# Altium footprint library Neural_Interface.PcbLib: 79 footprints (part 5 of 5)
Each footprint in its own frame and in the unit in brackets; x right, y up, seen from the top. Pads: shape width x height; smd on the part's side, far side on the other; paste and mask are expansions set on the pad; w line width, h text height; cw(c..) or ccw(c..) is an arc to the next point about the centre after c.
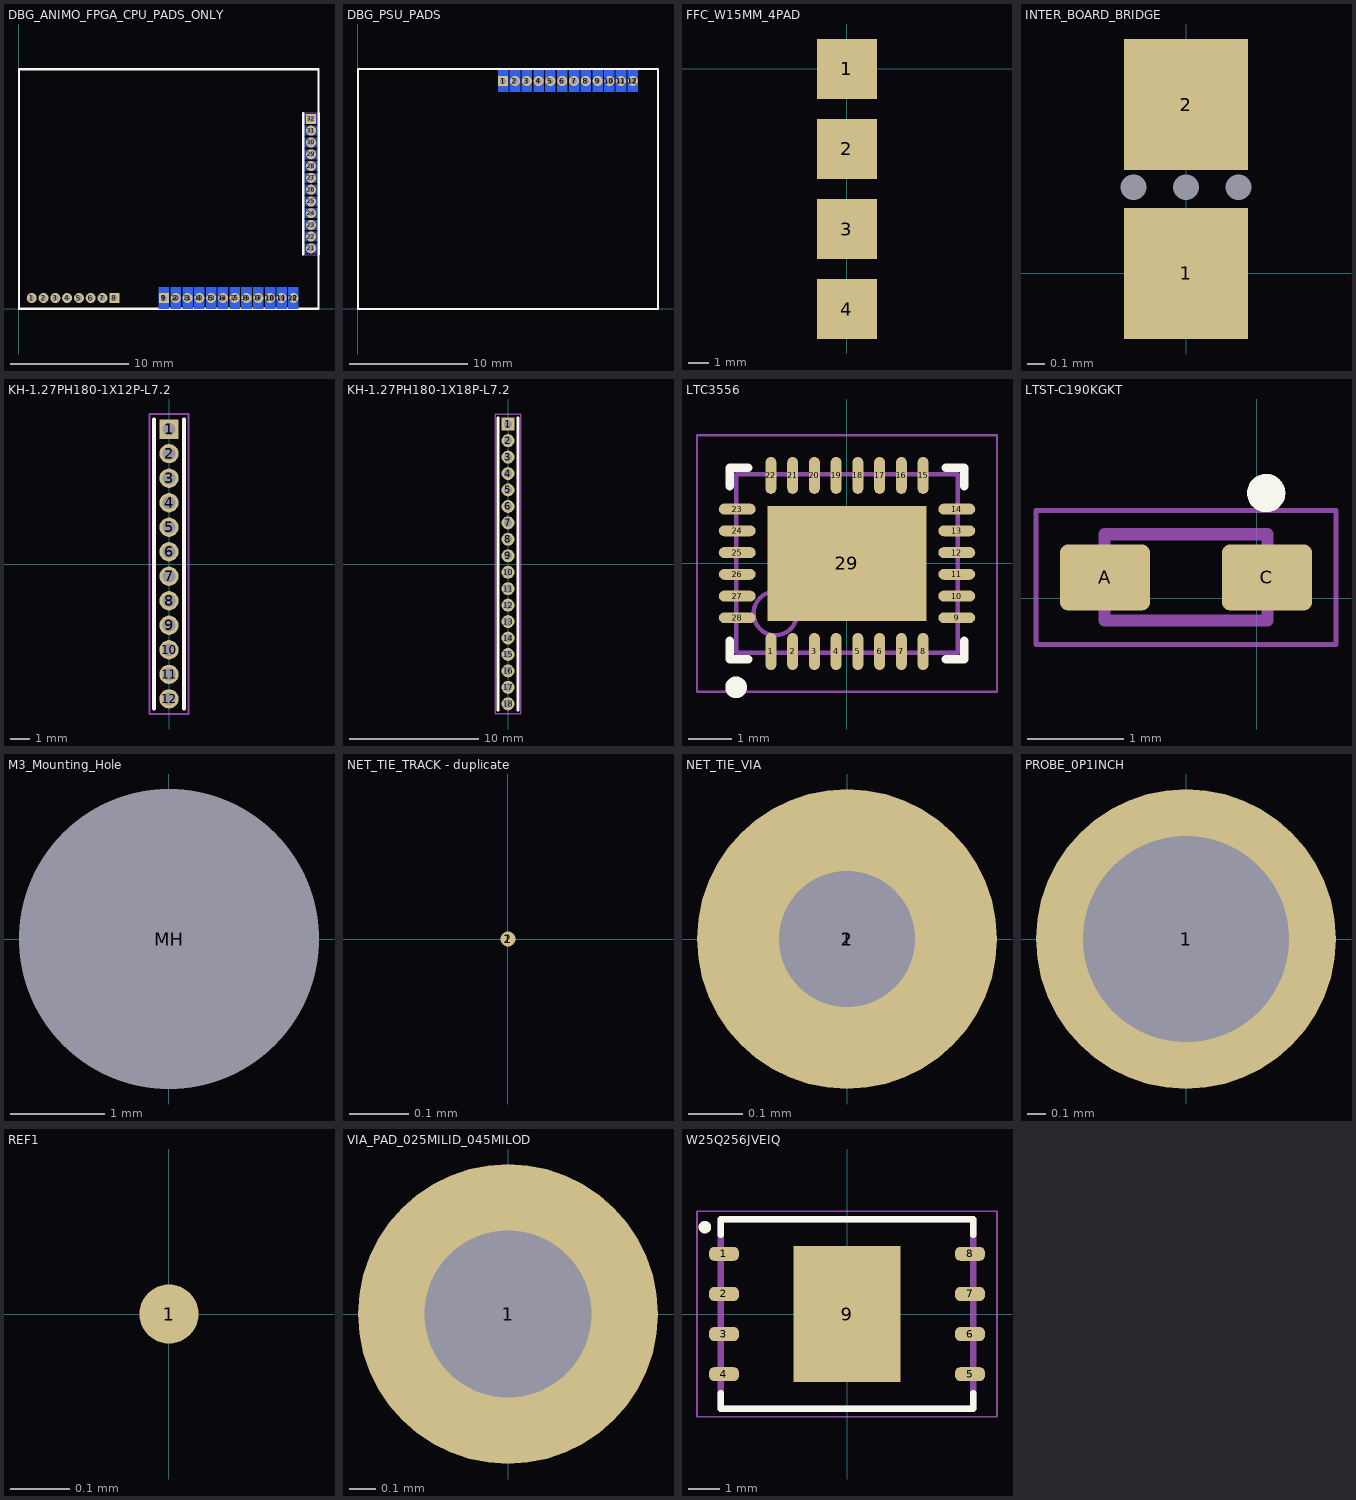
[diagram p4: the footprints below, top view; thin cyan lines are the x and y axes]

## DBG_ANIMO_FPGA_CPU_PADS_ONLY [mm]
pads (44):
  round 0.85 hole 0.5: 1(1.089,0.9) 2(2.089,0.9) 3(3.089,0.9) 4(4.089,0.9) 5(5.089,0.9) 6(6.089,0.9) 7(7.089,0.9) 10(13.3,0.9) 11(14.3,0.9) 12(15.3,0.9) 13(16.3,0.9) 14(17.3,0.9) 15(18.3,0.9) 16(19.3,0.9) 17(20.3,0.9) 18(21.3,0.9) 19(22.277,0.9) 20(23.277,0.9) 21(24.774,5.118) 22(24.774,6.118) 23(24.774,7.095) 24(24.774,8.095) 25(24.774,9.095) 26(24.774,10.095) 27(24.774,11.095) 28(24.774,12.095) 29(24.774,13.095) 30(24.774,14.095) 31(24.774,15.095)
  rect 0.85x1.8 smd far side: 1(12.3,0.9) 2(13.3,0.9) 3(14.3,0.9) 4(15.3,0.9) 5(16.3,0.9) 6(17.3,0.9) 7(18.3,0.9) 8(19.3,0.9) 9(20.3,0.9) 10(21.3,0.9) 11(22.277,0.9) 12(23.277,0.9)
  rect 0.85x0.85 hole 0.5: 8(8.089,0.9) 9(12.3,0.9) 32(24.774,16.095)
Bottom Layer:
  rectangle: 24.18,12.67 25.409,13.52
  rectangle: 24.18,5.693 25.409,6.543
  rectangle: 24.18,6.67 25.409,7.52
  rectangle: 24.18,7.67 25.409,8.52
  rectangle: 24.18,8.67 25.409,9.52
  rectangle: 24.18,9.67 25.409,10.52
  rectangle: 24.18,10.67 25.409,11.52
  rectangle: 24.18,11.67 25.409,12.52
  rectangle: 24.139,13.67 25.409,14.52
  rectangle: 24.139,14.67 25.409,15.52
  rectangle: 24.139,15.67 25.409,16.52
  rectangle: 24.139,4.693 25.409,5.543
Top Overlay:
  lines w0.198: 0.009,-0.01 25.409,-0.01 25.409,20.31 0.009,20.31 0.009,-0.01
  lines w0.2: 24.099,4.595 24.099,16.595 ; 25.449,4.595 25.449,16.595
Bottom Solder:
  lines w0.198: 0.009,-0.01 25.409,-0.01
Top 3D Body:
  lines w0.1: 24.139,4.595 24.139,16.595 25.409,16.595 25.409,4.595 24.139,4.595
3D body "ANIMO_Mainboard_Nordic_FPGA_V001.step": height 2.8, standoff -9.53, extent 0.009,-0.01 25.409,20.31

## DBG_PSU_PADS [mm]
pads (24):
  rect 0.85x0.85 hole 0.5: 1(12.291,19.304)
  rect 0.85x1.8 smd far side: 1(12.291,19.304) 2(13.291,19.304) 3(14.291,19.304) 4(15.291,19.304) 5(16.291,19.304) 6(17.291,19.304) 7(18.291,19.304) 8(19.291,19.304) 9(20.291,19.304) 10(21.291,19.304) 11(22.268,19.304) 12(23.268,19.304)
  round 0.85 hole 0.5: 2(13.291,19.304) 3(14.291,19.304) 4(15.291,19.304) 5(16.291,19.304) 6(17.291,19.304) 7(18.291,19.304) 8(19.291,19.304) 9(20.291,19.304) 10(21.291,19.304) 11(22.268,19.304) 12(23.268,19.304)
Top Overlay:
  lines w0.198: 0,0 0,20.32 25.4,20.32 25.4,0 0,0
3D body "Module_Power_V002.step": height 1.95, standoff 0.13, extent 0,0 25.4,20.32

## FFC_W15MM_4PAD [mm]
pads (4):
  rect 3x3 smd mask+0: 1(0,0) 2(0,-4) 3(0,-8) 4(0,-12)

## INTER_BOARD_BRIDGE [mm]
pads (5):
  rect 0.72x0.76 smd: 1(0,0) 2(0,0.98)
  round 0 hole 0.15 mask+0.102: 35(-0.305,0.5) 35(0,0.5) 35(0.305,0.5)

## KH-1.27PH180-1X12P-L7.2 [mm]
pads (12):
  rect 1x1 hole 0.65: 1(0,6.985)
  round 1 hole 0.65: 2(0,5.715) 3(0,4.445) 4(0,3.175) 5(0,1.905) 6(0,0.635) 7(0,-0.635) 8(0,-1.905) 9(0,-3.175) 10(0,-4.445) 11(0,-5.715) 12(0,-6.985)
Top Overlay:
  lines w0.2: -0.775,-7.5 -0.775,7.5 ; 0.775,-7.5 0.775,7.5
Top Courtyard:
  lines w0.1: -1,-7.77 1,-7.77 1,7.77 -1,7.77 -1,-7.77

## KH-1.27PH180-1X18P-L7.2 [mm]
pads (18):
  rect 1x1 hole 0.65: 1(0,10.795)
  round 1 hole 0.65: 2(0,9.525) 3(0,8.255) 4(0,6.985) 5(0,5.715) 6(0,4.445) 7(0,3.175) 8(0,1.905) 9(0,0.635) 10(0,-0.635) 11(0,-1.905) 12(0,-3.175) 13(0,-4.445) 14(0,-5.715) 15(0,-6.985) 16(0,-8.255) 17(0,-9.525) 18(0,-10.795)
Top Overlay:
  lines w0.2: -0.775,-11.3 -0.775,11.3 ; 0.775,-11.3 0.775,11.3
Top Courtyard:
  lines w0.1: -1,-11.58 -1,11.58 1,11.58 1,-11.58 -1,-11.58

## LTC3556 [mm]
pads (29):
  oval 0.25x0.85 smd: 1(-1.75,-2.025) 2(-1.25,-2.025) 3(-0.75,-2.025) 4(-0.25,-2.025) 5(0.25,-2.025) 6(0.75,-2.025) 7(1.25,-2.025) 8(1.75,-2.025) 15(1.75,2.025) 16(1.25,2.025) 17(0.75,2.025) 18(0.25,2.025) 19(-0.25,2.025) 20(-0.75,2.025) 21(-1.25,2.025) 22(-1.75,2.025)
  oval 0.85x0.25 smd: 9(2.525,-1.25) 10(2.525,-0.75) 11(2.525,-0.25) 12(2.525,0.25) 13(2.525,0.75) 14(2.525,1.25) 23(-2.525,1.25) 24(-2.525,0.75) 25(-2.525,0.25) 26(-2.525,-0.25) 27(-2.525,-0.75) 28(-2.525,-1.25)
  rect 3.65x2.65 smd: 29(0,0)
Top Overlay:
  circle w0.25: c-2.55,-2.85 r0.125
  lines w0.2: -2.7,-1.775 -2.7,-2.2 -2.275,-2.2 ; -2.7,1.775 -2.7,2.2 -2.275,2.2 ; 2.275,-2.2 2.7,-2.2 2.7,-1.775 ; 2.275,2.2 2.7,2.2 2.7,1.775
Top 3D Body:
  circle w0.1: c-1.65,-1.15 r0.5
  lines w0.1: -2.55,-2.05 -2.55,2.05 2.55,2.05 2.55,-2.05 -2.55,-2.05
Top Courtyard:
  lines w0.05: -3.45,-2.95 -3.45,2.95 3.45,2.95 3.45,-2.95 -3.45,-2.95
  lines w0.1: -0.5,0 0.5,0 ; 0,-0.5 0,0.5
3D body: height 0.8, standoff 0, extent -2.55,-2.05 2.55,2.05

## LTST-C190KGKT [mm]
pads (2):
  rrect25% 0.94x0.69 smd: A(-1.581,0.219) C(0.109,0.219)
Top Overlay:
  circle w0.2: c0.1,1.1 r0.1
Top 3D Body:
  lines w0.127: -1.586,-0.231 0.114,-0.231 0.114,0.669 -1.586,0.669 -1.586,-0.231
Top Courtyard:
  lines w0.05: -2.301,-0.481 0.829,-0.481 0.829,0.919 -2.301,0.919 -2.301,-0.481

## M3_Mounting_Hole [mil]
pads (1):
  round 60 hole 126 unplated: MH(0,0)

## NET_TIE_TRACK - duplicate [mil]
pads (2):
  round 1 smd mask+4: 1(0,0) 2(0,0)

## NET_TIE_VIA [mm]
pads (2):
  round 0.55 hole 0.25 mask+0.15: 1(0,0)
  round 0.55 smd: 2(0,0)

## PROBE_0P1INCH [mm]
pads (1):
  round 1.6 hole 1.1: 1(0,0)
Top Courtyard:
  lines w0.05: -0.5,0 0.5,0 ; 0,-0.5 0,0.5

## REF1 [mm]
pads (1):
  round 0.1 smd mask+0.102: 1(0,0)

## VIA_PAD_025MILID_045MILOD [mil]
pads (1):
  round 45 hole 25: 1(0,0)

## W25Q256JVEIQ [mm]
pads (9):
  rrect70% 0.94x0.44 smd: 1(-3.895,1.905) 2(-3.895,0.635) 3(-3.895,-0.635) 4(-3.895,-1.905) 5(3.895,-1.905) 6(3.895,-0.635) 7(3.895,0.635) 8(3.895,1.905)
  rect 3.4x4.3 smd paste-3: 9(0,0)
Top Overlay:
  circle w0.2: c-4.5,2.75 r0.1
  lines w0.2: -4,-2.5 -4,-3 4,-3 4,-2.5 ; -4,2.5 -4,3 4,3 4,2.5
Top Paste:
  region: 1.075,-1.351 -1.076,-1.351 -1.076,1.35 1.075,1.35
Top 3D Body:
  lines w0.2: -4,-3 -4,3 4,3 4,-3 -4,-3
Top Courtyard:
  lines w0.05: -4.75,-3.25 -4.75,3.25 4.75,3.25 4.75,-3.25 -4.75,-3.25
3D body "W25Q256JVEIQ TR--3DModel-STEP-1.STEP": height 0.75, standoff -0.05, extent -4.018,-3.056 3.982,2.944